# Altium schematic symbol library Diode.SchLib: 8 symbols
Pins are listed as number, name and electrical type; pins without a type are passive.

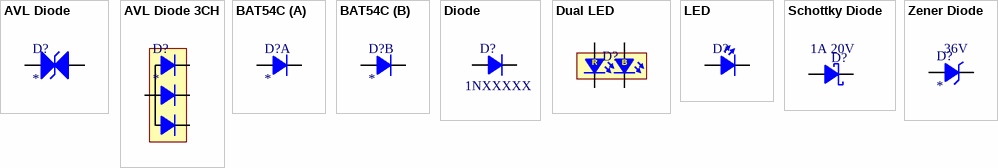
[diagram p0: symbols AVL Diode to Zener Diode]

## AVL Diode
designator D?
Zener Diode; Part No.: PGB; Value: 24V; Vendor: *; Price Est.: *; Manufacturer: *
pins: 1, 2

## AVL Diode 3CH
designator D?
Part No.: SP0503BAHT; Manufacturer: Littlefuse; Vendor: Mouser; Price Est.: $0.43
footprint SOT-143 (SOT-143; 4 Leads; Body 3 x 2.5 mm, inc. leads (LxW max))
pins: 1, 2, 3, 4

## BAT54C
designator D?
Part No.: BAT54C; Manufacturer: Fairchild Semiconductor; Vendor: Mouser; Price Est.: $0.06
footprint SOT23A (SOT-23; 3 Leads; Body 3.0 x 2.5 mm, inc. leads (LxW max))
part A pins: 1 A1, 3 K
part B pins: 2 A2, 3 K

## Diode
designator D?  Part No.: 1NXXXXX  (hidden comment: *)
Diode; Vendor: *; Manufacturer: *; Price Est.: *
footprint SUB SMA (SUB SMA (MINI SMA) (TSMC S1GL) (Bourns Mini-SMA CD1607-B1X0))
footprint SOD-323 (SOD323 Diode)
footprint SOT-23 (SOT-23; 3 Leads; Body 3.0 x 2.6 mm, inc. leads (LxW max)); pin to pad 2>3
pins: 1, 2

## Dual LED
designator D?  (value not drawn)
Dual LED; Part No.: LTST-C195TBJRKT; Manufacturer: Lite-On; Vendor: Mouser; Price Est.: $0.84
footprint LTST-C195 (Lite-On LTST-C195 (0605))
pins: 1, 2, 3, 4
text: R; B

## LED
designator D?  (value not drawn)
LED; Part No.: LTST-C170XXX; Manufacturer: Lite-On; Vendor: Mouser; Price Est.: $0.36
footprint LTST-C170GKT (Lite-On LTST-C170GKT (0805))
footprint LTST-C190 (Lite-On LTST-C190 (0603))
pins: 1, 2

## Schottky Diode
designator D?  value 1A 20V  (hidden comment: *)
Schottky Diode
footprint D0-214AC SMA (D0-214AC SMA Diode)
footprint SOD-323 (SOD323 Diode)
footprint DO-214AB SMC
pins: 1, 2

## Zener Diode
designator D?  value 36V
Zener Diode; Part No.: BZX84C36xxxxxxxxxx; Vendor: *; Price Est.: *; Manufacturer: *
pins: 1, 2